# Altium footprint library WP130WCP.PcbLib: 1 footprints
Each footprint in its own frame and in the unit in brackets; x right, y up, seen from the top. Pads: shape width x height; smd on the part's side, far side on the other; paste and mask are expansions set on the pad; w line width, h text height; cw(c..) or ccw(c..) is an arc to the next point about the centre after c.
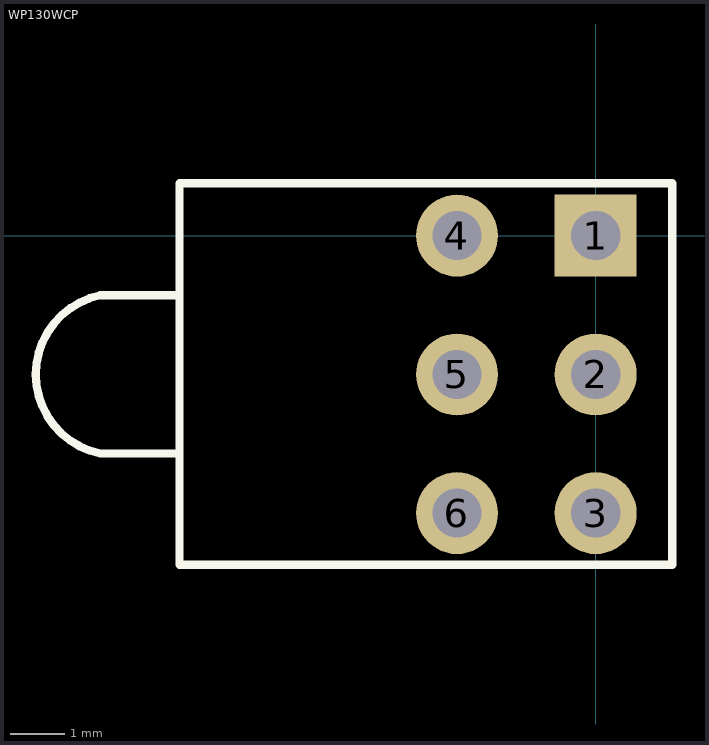
[diagram p0: the footprint, top view; thin cyan lines are the x and y axes]

## WP130WCP [mm]
pads (6):
  rect 1.5x1.5 hole 0.9: 1(0,0)
  round 1.5 hole 0.9: 2(0,-2.54) 3(0,-5.08) 4(-2.54,0) 5(-2.54,-2.54) 6(-2.54,-5.08)
Top Overlay:
  lines w0.15: -7.62,-3.99 -9.07,-3.99 cw(c-8.769,-2.54) -9.07,-1.09 -7.62,-1.09 ; -7.62,-6.025 -7.62,0.96 1.4,0.96 1.4,-6.025 -7.62,-6.025
3D body "WP130WCP.step": height 9.65, standoff -3.5, extent -10.32,-6.05 1.4,0.95